# Altium footprint library memory-idt.PCBLIB: 54 footprints (part 3 of 4)
Each footprint in its own frame and in the unit in brackets; x right, y up, seen from the top. Pads: shape width x height; smd on the part's side, far side on the other; paste and mask are expansions set on the pad; w line width, h text height; cw(c..) or ccw(c..) is an arc to the next point about the centre after c.
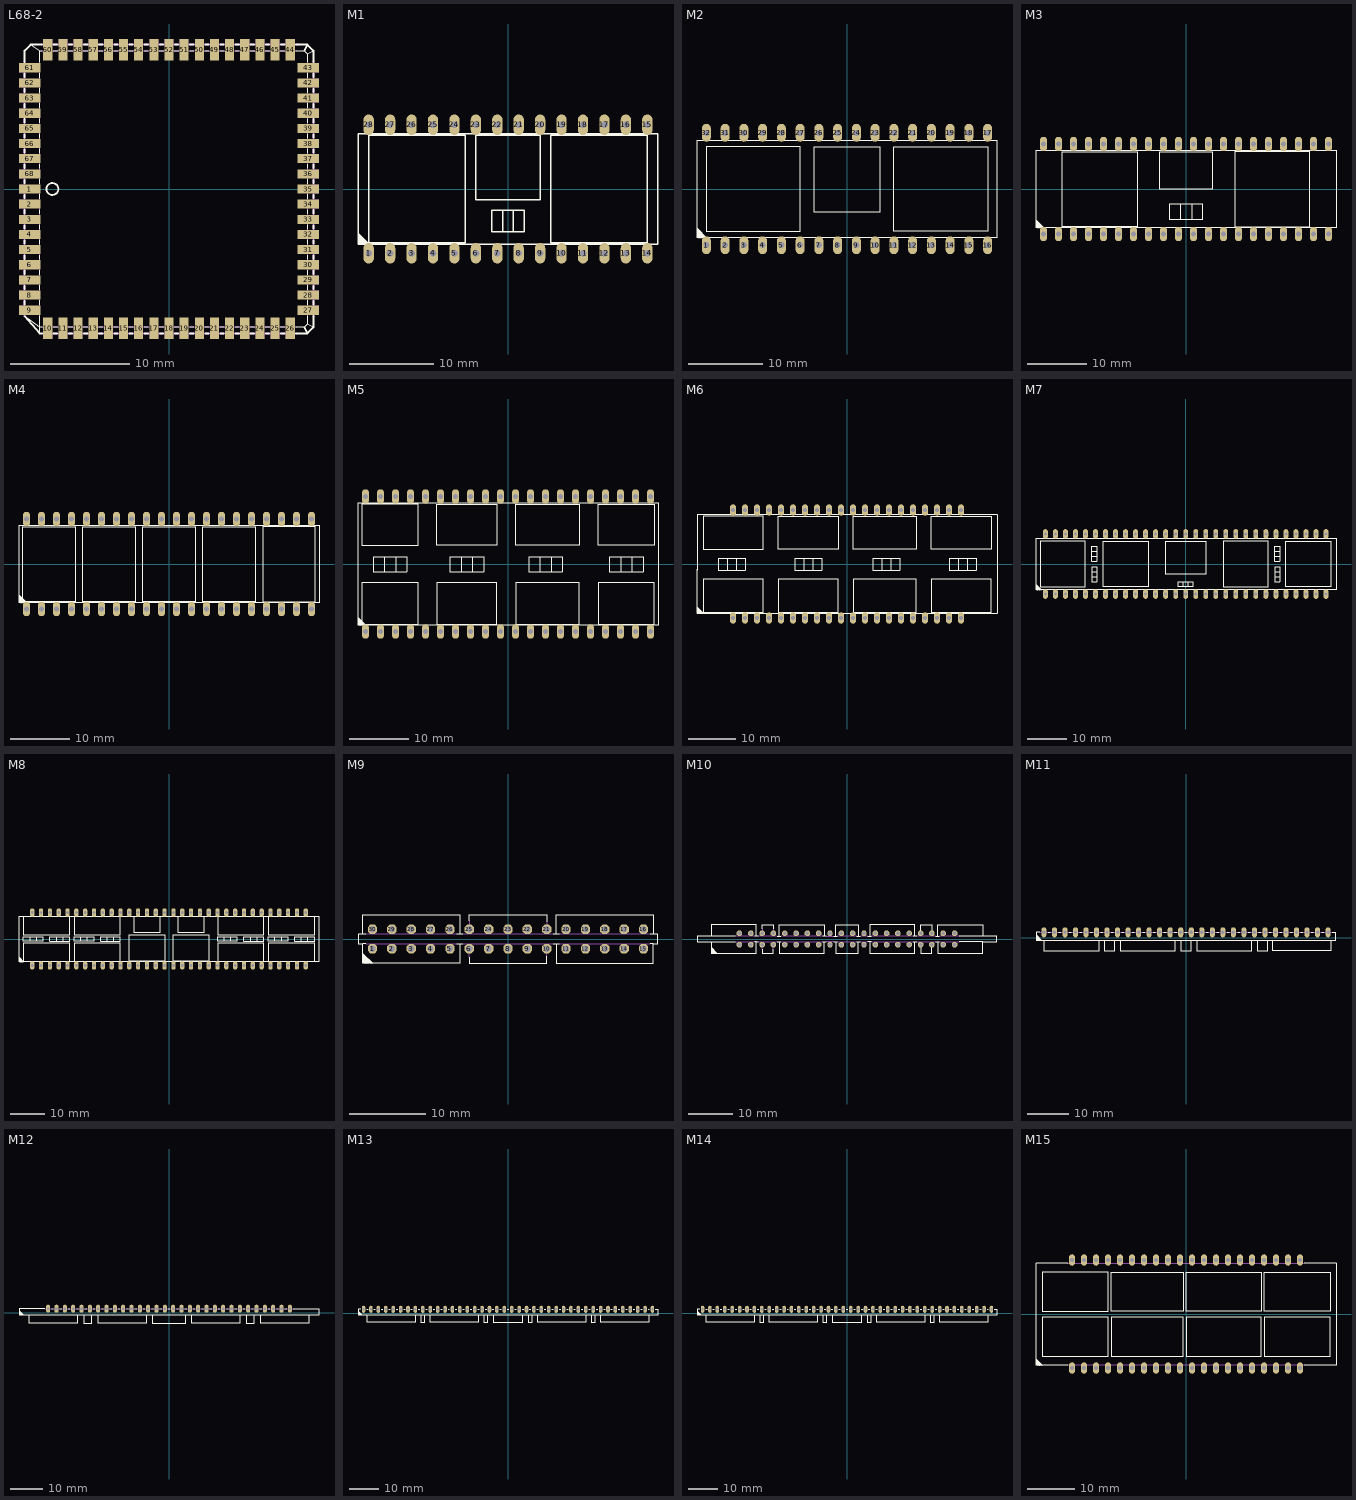
[diagram p2: the footprints below, top view; thin cyan lines are the x and y axes]

## L68-2 [mil]
pads (68):
  rect 70.87x29.92 smd: 1(-459.45,0) 2(-459.45,-50) 3(-459.45,-100) 4(-459.45,-150) 5(-459.45,-200) 6(-459.45,-250) 7(-459.45,-300) 8(-459.45,-350) 9(-459.45,-400) 27(459.45,-400) 28(459.45,-350) 29(459.45,-300) 30(459.45,-250) 31(459.45,-200) 32(459.45,-150) 33(459.45,-100) 34(459.45,-50) 35(459.45,0) 36(459.45,50) 37(459.45,100) 38(459.45,150) 39(459.45,200) 40(459.45,250) 41(459.45,300) 42(459.45,350) 43(459.45,400) 61(-459.45,400) 62(-459.45,350) 63(-459.45,300) 64(-459.45,250) 65(-459.45,200) 66(-459.45,150) 67(-459.45,100) 68(-459.45,50)
  rect 29.92x70.87 smd: 10(-400,-459.45) 11(-350,-459.45) 12(-300,-459.45) 13(-250,-459.45) 14(-200,-459.45) 15(-150,-459.45) 16(-100,-459.45) 17(-50,-459.45) 18(0,-459.45) 19(50,-459.45) 20(100,-459.45) 21(150,-459.45) 22(200,-459.45) 23(250,-459.45) 24(300,-459.45) 25(350,-459.45) 26(400,-459.45) 44(400,459.45) 45(350,459.45) 46(300,459.45) 47(250,459.45) 48(200,459.45) 49(150,459.45) 50(100,459.45) 51(50,459.45) 52(0,459.45) 53(-50,459.45) 54(-100,459.45) 55(-150,459.45) 56(-200,459.45) 57(-250,459.45) 58(-300,459.45) 59(-350,459.45) 60(-400,459.45)
Top Overlay:
  drawing of 157 lines, arcs and shapes, not listed
Mechanical 16:
  rectangle: -114.96,476.38 -85.04,494.88
  rectangle: -64.96,476.38 -35.04,494.88
  rectangle: -14.96,476.38 14.96,494.88
  rectangle: 35.04,476.38 64.96,494.88
  rectangle: 85.04,476.38 114.96,494.88
  rectangle: 135.04,476.38 164.96,494.88
  rectangle: 185.04,476.38 214.96,494.88
  rectangle: 476.38,135.04 494.88,164.96
  rectangle: 476.38,85.04 494.88,114.96
  rectangle: 476.38,35.04 494.88,64.96
  rectangle: 476.38,-14.96 494.88,14.96
  rectangle: 476.38,-64.96 494.88,-35.04
  rectangle: 476.38,-114.96 494.88,-85.04
  rectangle: 476.38,-414.96 494.88,-385.04
  rectangle: -214.96,-494.88 -185.04,-476.38
  rectangle: -164.96,-494.88 -135.04,-476.38
  rectangle: -114.96,-494.88 -85.04,-476.38
  rectangle: -64.96,-494.88 -35.04,-476.38
  rectangle: -14.96,-494.88 14.96,-476.38
  rectangle: 35.04,-494.88 64.96,-476.38
  rectangle: 85.04,-494.88 114.96,-476.38
  rectangle: -494.88,135.04 -476.38,164.96
  rectangle: -494.88,85.04 -476.38,114.96
  rectangle: -494.88,35.04 -476.38,64.96
  rectangle: -494.88,-14.96 -476.38,14.96
  rectangle: -494.88,-64.96 -476.38,-35.04
  rectangle: -494.88,-114.96 -476.38,-85.04
  rectangle: -494.88,-414.96 -476.38,-385.04
  rectangle: -164.96,476.38 -135.04,494.88
  rectangle: -214.96,476.38 -185.04,494.88
  rectangle: 135.04,-494.88 164.96,-476.38
  rectangle: 185.04,-494.88 214.96,-476.38
  rectangle: -494.88,185.04 -476.38,214.96
  rectangle: -494.88,235.04 -476.38,264.96
  rectangle: -494.88,-164.96 -476.38,-135.04
  rectangle: -494.88,-214.96 -476.38,-185.04
  rectangle: 235.04,-494.88 264.96,-476.38
  rectangle: 476.38,-214.96 494.88,-185.04
  rectangle: 476.38,-164.96 494.88,-135.04
  rectangle: 476.38,185.04 494.88,214.96
  rectangle: 476.38,235.04 494.88,264.96
  rectangle: 235.04,476.38 264.96,494.88
  rectangle: -264.96,476.38 -235.04,494.88
  rectangle: -264.96,-494.88 -235.04,-476.38
  rectangle: 476.38,-264.96 494.88,-235.04
  rectangle: 476.38,-314.96 494.88,-285.04
  rectangle: 476.38,-364.96 494.88,-335.04
  rectangle: 285.04,-494.88 314.96,-476.38
  rectangle: 335.04,-494.88 364.96,-476.38
  rectangle: 385.04,-494.88 414.96,-476.38
  rectangle: -314.96,-494.88 -285.04,-476.38
  rectangle: -364.96,-494.88 -335.04,-476.38
  rectangle: -414.96,-494.88 -385.04,-476.38
  rectangle: -494.88,-264.96 -476.38,-235.04
  rectangle: -494.88,-314.96 -476.38,-285.04
  rectangle: -494.88,-364.96 -476.38,-335.04
  rectangle: -314.96,476.38 -285.04,494.88
  rectangle: -364.96,476.38 -335.04,494.88
  rectangle: -414.96,476.38 -385.04,494.88
  rectangle: -494.88,285.04 -476.38,314.96
  rectangle: -494.88,335.04 -476.38,364.96
  rectangle: -494.88,385.04 -476.38,414.96
  rectangle: 285.04,476.38 314.96,494.88
  rectangle: 335.04,476.38 364.96,494.88
  rectangle: 385.04,476.38 414.96,494.88
  rectangle: 476.38,285.04 494.88,314.96
  rectangle: 476.38,335.04 494.88,364.96
  rectangle: 476.38,385.04 494.88,414.96
  lines w2: -427.17,-421.85 -427.17,419.09 ; -422.4,456.69 421.85,456.69 ; -420.43,-456.69 421.85,-456.69 ; 456.69,-421.85 456.69,421.85
  lines w6: -476.38,-419.96 -476.38,421.69 ; -421.69,476.38 426.69,476.38 ; -417.17,-476.38 421.69,-476.38 ; 476.38,-421.69 476.38,421.69

## M1 [mil]
pads (28):
  oval 48x96 hole 32: 1(-650,-300) 2(-550,-300) 3(-450,-300) 4(-350,-300) 5(-250,-300) 6(-150,-300) 7(-50,-300) 8(50,-300) 9(150,-300) 10(250,-300) 11(350,-300) 12(450,-300) 13(550,-300) 14(650,-300) 15(650,300) 16(550,300) 17(450,300) 18(350,300) 19(250,300) 20(150,300) 21(50,300) 22(-50,300) 23(-150,300) 24(-250,300) 25(-350,300) 26(-450,300) 27(-550,300) 28(-650,300)
Top Overlay:
  lines w6: -700,-252.52 -700,-258.74 -693.74,-258.74 ; -700,-252.52 -700,-246.26 ; -700,-252.52 -693.74,-258.74 ; -700,-246.26 -700,-240 ; -700,-246.26 -687.52,-258.74 ; -700,-240 -700,-233.74 ; -700,-240 -681.26,-258.74 ; -700,-233.74 -700,-227.52 ; -700,-233.74 -675,-258.74 ; -700,-227.52 -700,-221.26 ; -700,-227.52 -668.74,-258.74 ; -700,-221.26 -700,-215 ; -700,-221.26 -662.52,-258.74 ; -700,-215 -700,-208.74 ; -700,-215 -656.26,-258.74 ; -700,-208.74 -700,258.74 700,258.74 700,-258.74 -650,-258.74 ; -700,-208.74 -650,-258.74 ; -693.74,-258.74 -687.52,-258.74 ; -687.52,-258.74 -681.26,-258.74 ; -681.26,-258.74 -675,-258.74 ; -675,-258.74 -668.74,-258.74 ; -668.74,-258.74 -662.52,-258.74 ; -662.52,-258.74 -656.26,-258.74 ; -656.26,-258.74 -650,-258.74 ; -25,-200 -25,-100 ; -25,-200 -75,-200 -75,-100 -25,-100 ; -25,-200 25,-200 ; -25,-100 25,-100 ; 25,-200 25,-100 ; 25,-200 75,-200 75,-100 25,-100 ; -650,-250 -200,-250 -200,250 -650,250 -650,-250 ; -150,-50 150,-50 150,250 -150,250 -150,-50 ; 200,-250 650,-250 650,250 200,250 200,-250

## M2 [mil]
pads (32):
  oval 48x96 hole 32: 1(-750,-300) 2(-650,-300) 3(-550,-300) 4(-450,-300) 5(-350,-300) 6(-250,-300) 7(-150,-300) 8(-50,-300) 9(50,-300) 10(150,-300) 11(250,-300) 12(350,-300) 13(450,-300) 14(550,-300) 15(650,-300) 16(750,-300) 17(750,300) 18(650,300) 19(550,300) 20(450,300) 21(350,300) 22(250,300) 23(150,300) 24(50,300) 25(-50,300) 26(-150,300) 27(-250,300) 28(-350,300) 29(-450,300) 30(-550,300) 31(-650,300) 32(-750,300)
Top Overlay:
  lines w6: -800,-252.52 -800,-258.74 -793.74,-258.74 ; -800,-252.52 -800,-246.26 ; -800,-252.52 -793.74,-258.74 ; -800,-246.26 -800,-240 ; -800,-246.26 -787.52,-258.74 ; -800,-240 -800,-233.74 ; -800,-240 -781.26,-258.74 ; -800,-233.74 -800,-227.52 ; -800,-233.74 -775,-258.74 ; -800,-227.52 -800,-221.26 ; -800,-227.52 -768.74,-258.74 ; -800,-221.26 -800,-215 ; -800,-221.26 -762.52,-258.74 ; -800,-215 -800,-208.74 ; -800,-215 -756.26,-258.74 ; -800,-208.74 -800,258.74 800,258.74 800,-258.74 -750,-258.74 ; -800,-208.74 -750,-258.74 ; -793.74,-258.74 -787.52,-258.74 ; -787.52,-258.74 -781.26,-258.74 ; -781.26,-258.74 -775,-258.74 ; -775,-258.74 -768.74,-258.74 ; -768.74,-258.74 -762.52,-258.74 ; -762.52,-258.74 -756.26,-258.74 ; -756.26,-258.74 -750,-258.74 ; -750,-225 -750,225 -250,225 -250,-225 -750,-225 ; -175,-125 175,-125 175,225 -175,225 -175,-125 ; 250,-225 750,-225 750,225 250,225 250,-225

## M3 [mil]
pads (40):
  oval 48x96 hole 32: 1(-950,-300) 2(-850,-300) 3(-750,-300) 4(-650,-300) 5(-550,-300) 6(-450,-300) 7(-350,-300) 8(-250,-300) 9(-150,-300) 10(-50,-300) 11(50,-300) 12(150,-300) 13(250,-300) 14(350,-300) 15(450,-300) 16(550,-300) 17(650,-300) 18(750,-300) 19(850,-300) 20(950,-300) 21(950,300) 22(850,300) 23(750,300) 24(650,300) 25(550,300) 26(450,300) 27(350,300) 28(250,300) 29(150,300) 30(50,300) 31(-50,300) 32(-150,300) 33(-250,300) 34(-350,300) 35(-450,300) 36(-550,300) 37(-650,300) 38(-750,300) 39(-850,300) 40(-950,300)
Top Overlay:
  lines w6: -1000,-252.52 -1000,-258.74 -993.74,-258.74 ; -1000,-252.52 -1000,-246.26 ; -1000,-252.52 -993.74,-258.74 ; -1000,-246.26 -1000,-240 ; -1000,-246.26 -987.52,-258.74 ; -1000,-240 -1000,-233.74 ; -1000,-240 -981.26,-258.74 ; -1000,-233.74 -1000,-227.52 ; -1000,-233.74 -975,-258.74 ; -1000,-227.52 -1000,-221.26 ; -1000,-227.52 -968.74,-258.74 ; -1000,-221.26 -1000,-215 ; -1000,-221.26 -962.52,-258.74 ; -1000,-215 -1000,-208.74 ; -1000,-215 -956.26,-258.74 ; -1000,-208.74 -1000,258.74 1000,258.74 1000,-258.74 -950,-258.74 ; -1000,-208.74 -950,-258.74 ; -993.74,-258.74 -987.52,-258.74 ; -987.52,-258.74 -981.26,-258.74 ; -981.26,-258.74 -975,-258.74 ; -975,-258.74 -968.74,-258.74 ; -968.74,-258.74 -962.52,-258.74 ; -962.52,-258.74 -956.26,-258.74 ; -956.26,-258.74 -950,-258.74 ; -37.5,-200 -112.5,-200 -112.5,-100 -37.5,-100 ; -37.5,-200 37.5,-200 ; -37.5,-200 -37.5,-100 ; -37.5,-100 37.5,-100 ; 37.5,-200 112.5,-200 112.5,-100 37.5,-100 ; 37.5,-200 37.5,-100 ; -825,-250 -325,-250 -325,250 -825,250 -825,-250 ; -175,0 175,0 175,250 -175,250 -175,0 ; 325,-250 325,250 825,250 825,-250 325,-250

## M4 [mil]
pads (40):
  oval 48x96 hole 32: 1(-950,-300) 2(-850,-300) 3(-750,-300) 4(-650,-300) 5(-550,-300) 6(-450,-300) 7(-350,-300) 8(-250,-300) 9(-150,-300) 10(-50,-300) 11(50,-300) 12(150,-300) 13(250,-300) 14(350,-300) 15(450,-300) 16(550,-300) 17(650,-300) 18(750,-300) 19(850,-300) 20(950,-300) 21(950,300) 22(850,300) 23(750,300) 24(650,300) 25(550,300) 26(450,300) 27(350,300) 28(250,300) 29(150,300) 30(50,300) 31(-50,300) 32(-150,300) 33(-250,300) 34(-350,300) 35(-450,300) 36(-550,300) 37(-650,300) 38(-750,300) 39(-850,300) 40(-950,300)
Top Overlay:
  lines w6: -1000,-252.52 -1000,-258.74 -993.74,-258.74 ; -1000,-252.52 -1000,-246.26 ; -1000,-252.52 -993.74,-258.74 ; -1000,-246.26 -1000,-240 ; -1000,-246.26 -987.52,-258.74 ; -1000,-240 -1000,-233.74 ; -1000,-240 -981.26,-258.74 ; -1000,-233.74 -1000,-227.52 ; -1000,-233.74 -975,-258.74 ; -1000,-227.52 -1000,-221.26 ; -1000,-227.52 -968.74,-258.74 ; -1000,-221.26 -1000,-215 ; -1000,-221.26 -962.52,-258.74 ; -1000,-215 -1000,-208.74 ; -1000,-215 -956.26,-258.74 ; -1000,-208.74 -1000,258.74 1000,258.74 1000,-258.74 -950,-258.74 ; -1000,-208.74 -950,-258.74 ; -993.74,-258.74 -987.52,-258.74 ; -987.52,-258.74 -981.26,-258.74 ; -981.26,-258.74 -975,-258.74 ; -975,-258.74 -968.74,-258.74 ; -968.74,-258.74 -962.52,-258.74 ; -962.52,-258.74 -956.26,-258.74 ; -956.26,-258.74 -950,-258.74 ; -975,-250 -625,-250 -625,250 -975,250 -975,-250 ; -575,-250 -225,-250 -225,250 -575,250 -575,-250 ; -175,-250 175,-250 175,250 -175,250 -175,-250 ; 225,-250 575,-250 575,250 225,250 225,-250 ; 625,-250 625,250 975,250 975,-250 625,-250

## M5 [mil]
pads (40):
  oval 48x96 hole 32: 1(-950,-450) 2(-850,-450) 3(-750,-450) 4(-650,-450) 5(-550,-450) 6(-450,-450) 7(-350,-450) 8(-250,-450) 9(-150,-450) 10(-50,-450) 11(50,-450) 12(150,-450) 13(250,-450) 14(350,-450) 15(450,-450) 16(550,-450) 17(650,-450) 18(750,-450) 19(850,-450) 20(950,-450) 21(950,450) 22(850,450) 23(750,450) 24(650,450) 25(550,450) 26(450,450) 27(350,450) 28(250,450) 29(150,450) 30(50,450) 31(-50,450) 32(-150,450) 33(-250,450) 34(-350,450) 35(-450,450) 36(-550,450) 37(-650,450) 38(-750,450) 39(-850,450) 40(-950,450)
Top Overlay:
  lines w6: -1000,-402.52 -1000,-408.74 -993.74,-408.74 ; -1000,-402.52 -1000,-396.26 ; -1000,-402.52 -993.74,-408.74 ; -1000,-396.26 -1000,-390 ; -1000,-396.26 -987.52,-408.74 ; -1000,-390 -1000,-383.74 ; -1000,-390 -981.26,-408.74 ; -1000,-383.74 -1000,-377.52 ; -1000,-383.74 -975,-408.74 ; -1000,-377.52 -1000,-371.26 ; -1000,-377.52 -968.74,-408.74 ; -1000,-371.26 -1000,-365 ; -1000,-371.26 -962.52,-408.74 ; -1000,-365 -1000,-358.74 ; -1000,-365 -956.26,-408.74 ; -1000,-358.74 -1000,408.74 1000,408.74 1000,-408.74 -950,-408.74 ; -1000,-358.74 -950,-408.74 ; -993.74,-408.74 -987.52,-408.74 ; -987.52,-408.74 -981.26,-408.74 ; -981.26,-408.74 -975,-408.74 ; -975,-408.74 -968.74,-408.74 ; -968.74,-408.74 -962.52,-408.74 ; -962.52,-408.74 -956.26,-408.74 ; -956.26,-408.74 -950,-408.74 ; -825,-50 -825,50 ; -825,-50 -900,-50 -900,50 -825,50 ; -825,-50 -750,-50 ; -825,50 -750,50 ; -750,-50 -750,50 ; -750,-50 -675,-50 -675,50 -750,50 ; -312.5,-50 -312.5,50 ; -312.5,-50 -387.5,-50 -387.5,50 -312.5,50 ; -312.5,-50 -237.5,-50 ; -312.5,50 -237.5,50 ; -237.5,-50 -237.5,50 ; -237.5,-50 -162.5,-50 -162.5,50 -237.5,50 ; 212.5,-50 212.5,50 ; 212.5,-50 137.5,-50 137.5,50 212.5,50 ; 212.5,-50 287.5,-50 ; 212.5,50 287.5,50 ; 287.5,-50 287.5,50 ; 287.5,-50 362.5,-50 362.5,50 287.5,50 ; 750,-50 750,50 ; 750,-50 675,-50 675,50 750,50 ; 750,-50 825,-50 ; 750,50 825,50 ; 825,-50 825,50 ; 825,-50 900,-50 900,50 825,50 ; -975,-400 -975,-125 -600,-125 -600,-400 -975,-400 ; -975,125 -975,400 -600,400 -600,125 -975,125 ; -475,-400 -475,-125 -75,-125 -75,-400 -475,-400 ; -475,125 -75,125 -75,400 -475,400 -475,125 ; 50,-400 50,-125 475,-125 475,-400 50,-400 ; 50,125 475,125 475,400 50,400 50,125 ; 600,-400 600,-125 975,-125 975,-400 600,-400 ; 600,125 975,125 975,400 600,400 600,125

## M6 [mil]
pads (40):
  oval 48x96 hole 32: 1(-950,-450) 2(-850,-450) 3(-750,-450) 4(-650,-450) 5(-550,-450) 6(-450,-450) 7(-350,-450) 8(-250,-450) 9(-150,-450) 10(-50,-450) 11(50,-450) 12(150,-450) 13(250,-450) 14(350,-450) 15(450,-450) 16(550,-450) 17(650,-450) 18(750,-450) 19(850,-450) 20(950,-450) 21(950,450) 22(850,450) 23(750,450) 24(650,450) 25(550,450) 26(450,450) 27(350,450) 28(250,450) 29(150,450) 30(50,450) 31(-50,450) 32(-150,450) 33(-250,450) 34(-350,450) 35(-450,450) 36(-550,450) 37(-650,450) 38(-750,450) 39(-850,450) 40(-950,450)
Top Overlay:
  lines w6: -1250,-50 -1250,-45 ; -1250,35 -1250,50 ; -1250,-408.74 -1250,-410 1250,-410 1250,410 -1250,410 -1250,50 ; -1250,-408.74 -1243.74,-408.74 ; -1250,-408.74 -1250,-402.52 ; -1250,-402.52 -1250,-396.26 ; -1250,-402.52 -1243.74,-408.74 ; -1250,-396.26 -1250,-390 ; -1250,-396.26 -1237.52,-408.74 ; -1250,-390 -1250,-383.74 ; -1250,-390 -1231.26,-408.74 ; -1250,-383.74 -1250,-377.52 ; -1250,-383.74 -1225,-408.74 ; -1250,-377.52 -1250,-371.26 ; -1250,-377.52 -1218.74,-408.74 ; -1250,-371.26 -1250,-365 ; -1250,-371.26 -1212.52,-408.74 ; -1250,-365 -1250,-358.74 ; -1250,-365 -1206.26,-408.74 ; -1250,-358.74 -1250,-45 ; -1250,-358.74 -1200,-408.74 -1206.26,-408.74 ; -1250,-45 -1250,50 ; -1243.74,-408.74 -1237.52,-408.74 ; -1237.52,-408.74 -1231.26,-408.74 ; -1231.26,-408.74 -1225,-408.74 ; -1225,-408.74 -1218.74,-408.74 ; -1218.74,-408.74 -1212.52,-408.74 ; -1212.52,-408.74 -1206.26,-408.74 ; -1000,-50 -1000,50 ; -1000,-50 -1075,-50 -1075,50 -1000,50 ; -1000,-50 -925,-50 ; -1000,50 -925,50 ; -925,-50 -925,50 ; -925,-50 -850,-50 -850,50 -925,50 ; -362.5,-50 -362.5,50 ; -362.5,-50 -437.5,-50 -437.5,50 -362.5,50 ; -362.5,-50 -287.5,-50 ; -362.5,50 -287.5,50 ; -287.5,-50 -287.5,50 ; -287.5,-50 -212.5,-50 -212.5,50 -287.5,50 ; 287.5,-50 287.5,50 ; 287.5,-50 212.5,-50 212.5,50 287.5,50 ; 287.5,-50 362.5,-50 ; 287.5,50 362.5,50 ; 362.5,-50 362.5,50 ; 362.5,-50 437.5,-50 437.5,50 362.5,50 ; 925,-50 925,50 ; 925,-50 850,-50 850,50 925,50 ; 925,-50 1000,-50 ; 925,50 1000,50 ; 1000,-50 1000,50 ; 1000,-50 1075,-50 1075,50 1000,50 ; -1200,-400 -1200,-125 -700,-125 -700,-400 -1200,-400 ; -1200,125 -1200,400 -700,400 -700,125 -1200,125 ; -575,-400 -575,-125 -75,-125 -75,-400 -575,-400 ; -575,125 -75,125 -75,400 -575,400 -575,125 ; 50,-400 50,-125 575,-125 575,-400 50,-400 ; 50,125 575,125 575,400 50,400 50,125 ; 700,-400 700,-125 1200,-125 1200,-400 700,-400 ; 700,125 1200,125 1200,400 700,400 700,125

## M7 [mil]
pads (58):
  oval 48x96 hole 32: 1(-1400,-300) 2(-1300,-300) 3(-1200,-300) 4(-1100,-300) 5(-1000,-300) 6(-900,-300) 7(-800,-300) 8(-700,-300) 9(-600,-300) 10(-500,-300) 11(-400,-300) 12(-300,-300) 13(-200,-300) 14(-100,-300) 15(0,-300) 16(100,-300) 17(200,-300) 18(300,-300) 19(400,-300) 20(500,-300) 21(600,-300) 22(700,-300) 23(800,-300) 24(900,-300) 25(1000,-300) 26(1100,-300) 27(1200,-300) 28(1300,-300) 29(1400,-300) 30(1400,300) 31(1300,300) 32(1200,300) 33(1100,300) 34(1000,300) 35(900,300) 36(800,300) 37(700,300) 38(600,300) 39(500,300) 40(400,300) 41(300,300) 42(200,300) 43(100,300) 44(0,300) 45(-100,300) 46(-200,300) 47(-300,300) 48(-400,300) 49(-500,300) 50(-600,300) 51(-700,300) 52(-800,300) 53(-900,300) 54(-1000,300) 55(-1100,300) 56(-1200,300) 57(-1300,300) 58(-1400,300)
Top Overlay:
  lines w6: -1493.74,-252.52 -1493.74,-258.74 -1487.52,-258.74 ; -1493.74,-252.52 -1493.74,-246.26 ; -1493.74,-252.52 -1487.52,-258.74 ; -1493.74,-246.26 -1493.74,-240 ; -1493.74,-246.26 -1481.26,-258.74 ; -1493.74,-240 -1493.74,-233.74 ; -1493.74,-240 -1475,-258.74 ; -1493.74,-233.74 -1493.74,-227.52 ; -1493.74,-233.74 -1468.74,-258.74 ; -1493.74,-227.52 -1493.74,-221.26 ; -1493.74,-227.52 -1462.52,-258.74 ; -1493.74,-221.26 -1493.74,-215 ; -1493.74,-221.26 -1456.26,-258.74 ; -1493.74,-215 -1493.74,-208.74 ; -1493.74,-215 -1450,-258.74 ; -1493.74,-208.74 -1493.74,258.74 1500,258.74 1500,-258.74 -1443.74,-258.74 ; -1493.74,-208.74 -1443.74,-258.74 ; -1487.52,-258.74 -1481.26,-258.74 ; -1481.26,-258.74 -1475,-258.74 ; -1475,-258.74 -1468.74,-258.74 ; -1468.74,-258.74 -1462.52,-258.74 ; -1462.52,-258.74 -1456.26,-258.74 ; -1456.26,-258.74 -1450,-258.74 ; -1450,-258.74 -1443.74,-258.74 ; -937.5,-125 -887.5,-125 ; -937.5,-125 -937.5,-75 ; -937.5,-125 -937.5,-175 -887.5,-175 -887.5,-125 ; -937.5,-75 -887.5,-75 ; -937.5,-75 -937.5,-25 -887.5,-25 -887.5,-75 ; -937.5,75 -887.5,75 ; -937.5,75 -937.5,25 -887.5,25 -887.5,75 ; -937.5,75 -937.5,125 ; -937.5,125 -887.5,125 ; -937.5,125 -937.5,175 -887.5,175 -887.5,125 ; -887.5,-125 -887.5,-75 ; -887.5,75 -887.5,125 ; -25,-225 -25,-175 ; -25,-225 25,-225 ; -25,-225 -75,-225 -75,-175 -25,-175 ; -25,-175 25,-175 ; 25,-225 25,-175 ; 25,-225 75,-225 75,-175 25,-175 ; 887.5,-125 937.5,-125 ; 887.5,-125 887.5,-75 ; 887.5,-125 887.5,-175 937.5,-175 937.5,-125 ; 887.5,-75 937.5,-75 ; 887.5,-75 887.5,-25 937.5,-25 937.5,-75 ; 887.5,75 937.5,75 ; 887.5,75 887.5,25 937.5,25 937.5,75 ; 887.5,75 887.5,125 ; 887.5,125 937.5,125 ; 887.5,125 887.5,175 937.5,175 937.5,125 ; 937.5,-125 937.5,-75 ; 937.5,75 937.5,125 ; -1450,-225 -1000,-225 -1000,225 -1450,225 -1450,-225 ; -825,-225 -375,-225 -375,225 -825,225 -825,-225 ; -200,-100 200,-100 200,225 -200,225 -200,-100 ; 375,-225 825,-225 825,225 375,225 375,-225 ; 1000,-225 1450,-225 1450,225 1000,225 1000,-225

## M8 [mil]
pads (64):
  oval 48x96 hole 32: 1(-1550,-300) 2(-1450,-300) 3(-1350,-300) 4(-1250,-300) 5(-1150,-300) 6(-1050,-300) 7(-950,-300) 8(-850,-300) 9(-750,-300) 10(-650,-300) 11(-550,-300) 12(-450,-300) 13(-350,-300) 14(-250,-300) 15(-150,-300) 16(-50,-300) 17(50,-300) 18(150,-300) 19(250,-300) 20(350,-300) 21(450,-300) 22(550,-300) 23(650,-300) 24(750,-300) 25(850,-300) 26(950,-300) 27(1050,-300) 28(1150,-300) 29(1250,-300) 30(1350,-300) 31(1450,-300) 32(1550,-300) 33(1550,300) 34(1450,300) 35(1350,300) 36(1250,300) 37(1150,300) 38(1050,300) 39(950,300) 40(850,300) 41(750,300) 42(650,300) 43(550,300) 44(450,300) 45(350,300) 46(250,300) 47(150,300) 48(50,300) 49(-50,300) 50(-150,300) 51(-250,300) 52(-350,300) 53(-450,300) 54(-550,300) 55(-650,300) 56(-750,300) 57(-850,300) 58(-950,300) 59(-1050,300) 60(-1150,300) 61(-1250,300) 62(-1350,300) 63(-1450,300) 64(-1550,300)
Top Overlay:
  drawing of 156 lines, arcs and shapes, not listed

## M9 [mil]
pads (30):
  oct 48x48 hole 32: 1(-700,-50) 2(-600,-50) 3(-500,-50) 4(-400,-50) 5(-300,-50) 6(-200,-50) 7(-100,-50) 8(0,-50) 9(100,-50) 10(200,-50) 11(300,-50) 12(400,-50) 13(500,-50) 14(600,-50) 15(700,-50) 16(700,50) 17(600,50) 18(500,50) 19(400,50) 20(300,50) 21(200,50) 22(100,50) 23(0,50) 24(-100,50) 25(-200,50) 26(-300,50) 27(-400,50) 28(-500,50) 29(-600,50) 30(-700,50)
Top Overlay:
  lines w6: -735,-25 -750,-25 ; -735,25 -750,25 ; -265,-25 -250,-25 ; -265,25 -250,25 ; -235,-25 -250,-25 ; -235,25 -250,25 ; -200,-95 -200,-125 200,-125 200,-90 ; -200,95 -200,125 200,125 200,90 ; 235,-25 250,-25 ; 235,25 250,25 ; 265,-25 250,-25 ; 265,25 250,25 ; 735,-25 750,-25 ; 735,25 750,25 ; -750,-118.74 -750,-125 -743.74,-125 ; -750,-118.74 -750,-112.5 ; -750,-118.74 -743.74,-125 ; -750,-112.5 -750,-106.26 ; -750,-112.5 -737.5,-125 ; -750,-106.26 -750,-100 ; -750,-106.26 -731.26,-125 ; -750,-100 -750,-93.74 ; -750,-100 -725,-125 ; -750,-93.74 -750,-87.5 ; -750,-93.74 -718.74,-125 ; -750,-87.5 -750,-81.26 ; -750,-87.5 -712.5,-125 ; -750,-81.26 -750,-75 ; -750,-81.26 -706.26,-125 ; -750,-75 -750,-25 ; -750,-75 -700,-125 ; -750,-25 -775,-25 -775,25 -750,25 ; -750,25 -750,125 -250,125 -250,25 ; -743.74,-125 -737.5,-125 ; -737.5,-125 -731.26,-125 ; -731.26,-125 -725,-125 ; -725,-125 -718.74,-125 ; -718.74,-125 -712.5,-125 ; -712.5,-125 -706.26,-125 ; -706.26,-125 -700,-125 ; -700,-125 -250,-125 -250,-25 ; 250,-25 250,-125 750,-125 750,-25 ; 250,25 250,125 750,125 750,25 ; 750,-25 775,-25 775,25 750,25
Mechanical 16:
  lines w6: -735,-25 -265,-25 ; -735,25 -265,25 ; -235,-25 -200,-25 ; -235,25 -200,25 ; -200,-95 -200,-25 ; -200,95 -200,25 ; 200,-90 200,-25 ; 200,90 200,25 ; 235,-25 200,-25 ; 235,25 200,25 ; 265,-25 735,-25 ; 265,25 735,25 ; -200,-25 200,-25 ; -200,25 200,25

## M10 [mil]
pads (40):
  oct 48x48 hole 32: 1(-950,-50) 2(-850,-50) 3(-750,-50) 4(-650,-50) 5(-550,-50) 6(-450,-50) 7(-350,-50) 8(-250,-50) 9(-150,-50) 10(-50,-50) 11(50,-50) 12(150,-50) 13(250,-50) 14(350,-50) 15(450,-50) 16(550,-50) 17(650,-50) 18(750,-50) 19(850,-50) 20(950,-50) 21(950,50) 22(850,50) 23(750,50) 24(650,50) 25(550,50) 26(450,50) 27(350,50) 28(250,50) 29(150,50) 30(50,50) 31(-50,50) 32(-150,50) 33(-250,50) 34(-350,50) 35(-450,50) 36(-550,50) 37(-650,50) 38(-750,50) 39(-850,50) 40(-950,50)
Top Overlay:
  lines w6: -985,-25 -1200,-25 ; -985,25 -1200,25 ; -815,-25 -800,-25 ; -815,25 -800,25 ; -785,-25 -800,-25 ; -785,25 -800,25 ; -750,-90 -750,-125 -650,-125 -650,-90 ; -750,90 -750,125 -650,125 -650,90 ; -615,-25 -600,-25 ; -615,25 -600,25 ; -585,-25 -600,-25 ; -585,25 -600,25 ; -215,-25 -200,-25 ; -215,25 -200,25 ; -185,-25 -200,-25 ; -185,25 -200,25 ; -115,-25 -100,-25 ; -115,25 -100,25 ; -85,-25 -100,-25 ; -85,25 -100,25 ; 85,-25 115,-25 ; 85,25 115,25 ; 100,-25 100,-125 -100,-125 -100,-25 ; 100,25 100,125 -100,125 -100,25 ; 185,-25 215,-25 ; 185,25 215,25 ; 200,-25 200,-125 600,-125 600,-25 ; 200,25 200,125 600,125 600,25 ; 585,-25 615,-25 ; 585,25 615,25 ; 650,-75 650,-125 750,-125 750,-75 ; 650,75 650,125 750,125 750,75 ; 785,-25 815,-25 ; 785,25 815,25 ; 800,-25 800,-125 1200,-125 1200,-25 ; 800,25 800,125 1200,125 1200,25 ; 990,-25 1200,-25 ; 990,25 1200,25 ; -1200,-124.99 -1193.74,-125 ; -1200,-124.99 -1200,-118.75 ; -1200,-124.99 -1200,-118.75 ; -1200,-124.99 -800,-125 -800,-25 ; -1200,-118.75 -1200,-112.5 ; -1200,-118.75 -1193.74,-125 ; -1200,-118.75 -1200,-106.25 ; -1200,-112.5 -1200,-106.25 ; -1200,-112.5 -1187.5,-125 ; -1200,-106.25 -1200,-100 ; -1200,-106.25 -1181.26,-125 ; -1200,-106.25 -1200,-93.75 ; -1200,-100 -1200,-93.75 ; -1200,-100 -1175,-125 ; -1200,-93.75 -1200,-87.5 ; -1200,-93.75 -1168.74,-125 ; -1200,-93.75 -1200,-81.25 ; -1200,-87.5 -1200,-81.25 ; -1200,-87.5 -1162.5,-125 ; -1200,-81.25 -1200,-75 -1150,-125 -1156.26,-125 ; -1200,-81.25 -1156.26,-125 ; -1200,-81.25 -1200,-25 ; -1200,-25 -1325,-25 -1325,25 -1200,25 ; -1200,25 -1200,125 -800,125 -800,25 ; -1193.74,-125 -1187.5,-125 ; -1187.5,-125 -1181.26,-125 ; -1181.26,-125 -1175,-125 ; -1175,-125 -1168.74,-125 ; -1168.74,-125 -1162.5,-125 ; -1162.5,-125 -1156.26,-125 ; -600,-25 -600,-125 -200,-125 -200,-25 ; -600,25 -600,125 -200,125 -200,25 ; 1200,-25 1325,-25 1325,25 1200,25
Mechanical 16:
  lines w6: -985,-25 -815,-25 ; -985,25 -815,25 ; -785,-25 -750,-25 ; -785,25 -750,25 ; -750,-90 -750,-25 ; -750,90 -750,25 ; -650,-90 -650,-25 ; -650,90 -650,25 ; -615,-25 -650,-25 ; -615,25 -650,25 ; -585,-25 -215,-25 ; -585,25 -215,25 ; -185,-25 -115,-25 ; -185,25 -115,25 ; -85,-25 85,-25 ; -85,25 85,25 ; 115,-25 185,-25 ; 115,25 185,25 ; 215,-25 585,-25 ; 215,25 585,25 ; 615,-25 785,-25 ; 615,25 785,25 ; 815,-25 990,-25 ; 815,25 990,25 ; -750,-25 -650,-25 ; -750,25 -650,25

## M11 [mil]
pads (28):
  oval 48x96 hole 32: 1(-1350,50) 2(-1250,50) 3(-1150,50) 4(-1050,50) 5(-950,50) 6(-850,50) 7(-750,50) 8(-650,50) 9(-550,50) 10(-450,50) 11(-350,50) 12(-250,50) 13(-150,50) 14(-50,50) 15(50,50) 16(150,50) 17(250,50) 18(350,50) 19(450,50) 20(550,50) 21(650,50) 22(750,50) 23(850,50) 24(950,50) 25(1050,50) 26(1150,50) 27(1250,50) 28(1350,50)
Top Overlay:
  lines w6: -1390,50 -1425,50 -1425,25 ; -1310,50 -1290,50 ; -1210,50 -1190,50 ; -1110,50 -1090,50 ; -1010,50 -990,50 ; -910,50 -890,50 ; -810,50 -790,50 ; -710,50 -690,50 ; -610,50 -590,50 ; -510,50 -490,50 ; -410,50 -390,50 ; -310,50 -290,50 ; -210,50 -190,50 ; -110,50 -90,50 ; -10,50 10,50 ; 90,50 110,50 ; 190,50 210,50 ; 290,50 310,50 ; 390,50 410,50 ; 490,50 510,50 ; 590,50 610,50 ; 690,50 710,50 ; 790,50 810,50 ; 890,50 910,50 ; 990,50 1010,50 ; 1090,50 1110,50 ; 1190,50 1210,50 ; 1290,50 1310,50 ; 1390,50 1425,50 1425,-25 1375,-25 ; -1425,-18.74 -1425,-12.52 ; -1425,-18.74 -1425,-25 -1418.74,-25 ; -1425,-18.74 -1418.74,-25 ; -1425,-12.52 -1425,-6.26 ; -1425,-12.52 -1412.52,-25 ; -1425,-6.26 -1425,0 ; -1425,-6.26 -1406.26,-25 ; -1425,0 -1425,6.26 ; -1425,0 -1400,-25 ; -1425,6.26 -1425,12.52 ; -1425,6.26 -1393.74,-25 ; -1425,12.52 -1425,18.74 ; -1425,12.52 -1387.52,-25 ; -1425,18.74 -1425,25 ; -1425,18.74 -1381.26,-25 ; -1425,25 -1375,-25 ; -1418.74,-25 -1412.52,-25 ; -1412.52,-25 -1406.26,-25 ; -1406.26,-25 -1400,-25 ; -1400,-25 -1393.74,-25 ; -1393.74,-25 -1387.52,-25 ; -1387.52,-25 -1381.26,-25 ; -1381.26,-25 -1375,-25 ; -1375,-25 -1350,-25 ; -1350,-25 -825,-25 ; -1350,-25 -1350,-125 -825,-125 -825,-25 ; -825,-25 -775,-25 ; -775,-25 -675,-25 ; -775,-25 -775,-125 -675,-125 -675,-25 ; -675,-25 -625,-25 ; -625,-25 -100,-25 ; -625,-25 -625,-125 -100,-125 -100,-25 ; -100,-25 -50,-25 ; -50,-25 50,-25 ; -50,-25 -50,-125 50,-125 50,-25 ; 50,-25 100,-25 ; 100,-25 625,-25 ; 100,-25 100,-125 625,-125 625,-25 ; 625,-25 675,-25 ; 675,-25 775,-25 ; 675,-25 675,-125 775,-125 775,-25 ; 775,-25 825,-25 ; 825,-25 1375,-25 ; 825,-25 825,-125 1375,-125 1375,-25
Mechanical 16:
  lines w6: -1390,50 -1310,50 ; -1290,50 -1210,50 ; -1190,50 -1110,50 ; -1090,50 -1010,50 ; -990,50 -910,50 ; -890,50 -810,50 ; -790,50 -710,50 ; -690,50 -610,50 ; -590,50 -510,50 ; -490,50 -410,50 ; -390,50 -310,50 ; -290,50 -210,50 ; -190,50 -110,50 ; -90,50 -10,50 ; 10,50 90,50 ; 110,50 190,50 ; 210,50 290,50 ; 310,50 390,50 ; 410,50 490,50 ; 510,50 590,50 ; 610,50 690,50 ; 710,50 790,50 ; 810,50 890,50 ; 910,50 990,50 ; 1010,50 1090,50 ; 1110,50 1190,50 ; 1210,50 1290,50 ; 1310,50 1390,50

## M12 [mil]
pads (30):
  oval 48x96 hole 32: 1(-1450,50) 2(-1350,50) 3(-1250,50) 4(-1150,50) 5(-1050,50) 6(-950,50) 7(-850,50) 8(-750,50) 9(-650,50) 10(-550,50) 11(-450,50) 12(-350,50) 13(-250,50) 14(-150,50) 15(-50,50) 16(50,50) 17(150,50) 18(250,50) 19(350,50) 20(450,50) 21(550,50) 22(650,50) 23(750,50) 24(850,50) 25(950,50) 26(1050,50) 27(1150,50) 28(1250,50) 29(1350,50) 30(1450,50)
Top Overlay:
  lines w6: -1490,50 -1800,50 -1800,25 ; -1410,50 -1390,50 ; -1310,50 -1290,50 ; -1210,50 -1190,50 ; -1110,50 -1090,50 ; -1010,50 -990,50 ; -910,50 -890,50 ; -810,50 -790,50 ; -710,50 -690,50 ; -610,50 -590,50 ; -510,50 -490,50 ; -410,50 -390,50 ; -310,50 -290,50 ; -210,50 -190,50 ; -110,50 -90,50 ; -10,50 10,50 ; 90,50 110,50 ; 190,50 210,50 ; 290,50 310,50 ; 390,50 410,50 ; 490,50 510,50 ; 590,50 610,50 ; 690,50 710,50 ; 790,50 810,50 ; 890,50 910,50 ; 990,50 1010,50 ; 1090,50 1110,50 ; 1190,50 1210,50 ; 1290,50 1310,50 ; 1390,50 1410,50 ; 1490,50 1800,50 1800,-25 1675,-25 ; -1800,-18.74 -1800,-12.52 ; -1800,-18.74 -1800,-25 -1793.74,-25 ; -1800,-18.74 -1793.74,-25 ; -1800,-12.52 -1800,-6.26 ; -1800,-12.52 -1787.52,-25 ; -1800,-6.26 -1800,0 ; -1800,-6.26 -1781.26,-25 ; -1800,0 -1800,6.26 ; -1800,0 -1775,-25 ; -1800,6.26 -1800,12.52 ; -1800,6.26 -1768.74,-25 ; -1800,12.52 -1800,18.74 ; -1800,12.52 -1762.52,-25 ; -1800,18.74 -1800,25 ; -1800,18.74 -1756.26,-25 ; -1800,25 -1750,-25 ; -1793.74,-25 -1787.52,-25 ; -1787.52,-25 -1781.26,-25 ; -1781.26,-25 -1775,-25 ; -1775,-25 -1768.74,-25 ; -1768.74,-25 -1762.52,-25 ; -1762.52,-25 -1756.26,-25 ; -1756.26,-25 -1750,-25 ; -1750,-25 -1675,-25 ; -1675,-25 -1100,-25 ; -1675,-25 -1675,-125 -1100,-125 -1100,-25 ; -1100,-25 -1025,-25 ; -1025,-25 -925,-25 ; -1025,-25 -1025,-125 -925,-125 -925,-25 ; -925,-25 -850,-25 ; -850,-25 -275,-25 ; -850,-25 -850,-125 -275,-125 -275,-25 ; -275,-25 -200,-25 ; -200,-25 200,-25 ; -200,-25 -200,-125 200,-125 200,-25 ; 200,-25 275,-25 ; 275,-25 850,-25 ; 275,-25 275,-125 850,-125 850,-25 ; 850,-25 925,-25 ; 925,-25 1025,-25 ; 925,-25 925,-125 1025,-125 1025,-25 ; 1025,-25 1100,-25 ; 1100,-25 1675,-25 ; 1100,-25 1100,-125 1675,-125 1675,-25
Mechanical 16:
  lines w6: -1490,50 -1410,50 ; -1390,50 -1310,50 ; -1290,50 -1210,50 ; -1190,50 -1110,50 ; -1090,50 -1010,50 ; -990,50 -910,50 ; -890,50 -810,50 ; -790,50 -710,50 ; -690,50 -610,50 ; -590,50 -510,50 ; -490,50 -410,50 ; -390,50 -310,50 ; -290,50 -210,50 ; -190,50 -110,50 ; -90,50 -10,50 ; 10,50 90,50 ; 110,50 190,50 ; 210,50 290,50 ; 310,50 390,50 ; 410,50 490,50 ; 510,50 590,50 ; 610,50 690,50 ; 710,50 790,50 ; 810,50 890,50 ; 910,50 990,50 ; 1010,50 1090,50 ; 1110,50 1190,50 ; 1210,50 1290,50 ; 1310,50 1390,50 ; 1410,50 1490,50

## M13 [mil]
pads (40):
  oval 48x96 hole 32: 1(-1950,50) 2(-1850,50) 3(-1750,50) 4(-1650,50) 5(-1550,50) 6(-1450,50) 7(-1350,50) 8(-1250,50) 9(-1150,50) 10(-1050,50) 11(-950,50) 12(-850,50) 13(-750,50) 14(-650,50) 15(-550,50) 16(-450,50) 17(-350,50) 18(-250,50) 19(-150,50) 20(-50,50) 21(50,50) 22(150,50) 23(250,50) 24(350,50) 25(450,50) 26(550,50) 27(650,50) 28(750,50) 29(850,50) 30(950,50) 31(1050,50) 32(1150,50) 33(1250,50) 34(1350,50) 35(1450,50) 36(1550,50) 37(1650,50) 38(1750,50) 39(1850,50) 40(1950,50)
Top Overlay:
  lines w6: -1990,50 -2025,50 -2025,25 ; -1910,50 -1890,50 ; -1810,50 -1790,50 ; -1710,50 -1690,50 ; -1610,50 -1590,50 ; -1510,50 -1490,50 ; -1410,50 -1390,50 ; -1310,50 -1290,50 ; -1210,50 -1190,50 ; -1110,50 -1090,50 ; -1010,50 -990,50 ; -910,50 -890,50 ; -810,50 -790,50 ; -710,50 -690,50 ; -610,50 -590,50 ; -510,50 -490,50 ; -410,50 -390,50 ; -310,50 -290,50 ; -210,50 -190,50 ; -110,50 -90,50 ; -10,50 10,50 ; 90,50 110,50 ; 190,50 210,50 ; 290,50 310,50 ; 390,50 410,50 ; 490,50 510,50 ; 590,50 610,50 ; 690,50 710,50 ; 790,50 810,50 ; 890,50 910,50 ; 990,50 1010,50 ; 1090,50 1110,50 ; 1190,50 1210,50 ; 1290,50 1310,50 ; 1390,50 1410,50 ; 1490,50 1510,50 ; 1590,50 1610,50 ; 1690,50 1710,50 ; 1790,50 1810,50 ; 1890,50 1910,50 ; 1990,50 2025,50 2025,-25 1900,-25 ; -2025,-18.74 -2025,-12.52 ; -2025,-18.74 -2025,-25 -2018.74,-25 ; -2025,-18.74 -2018.74,-25 ; -2025,-12.52 -2025,-6.26 ; -2025,-12.52 -2012.52,-25 ; -2025,-6.26 -2025,0 ; -2025,-6.26 -2006.26,-25 ; -2025,0 -2025,6.26 ; -2025,0 -2000,-25 ; -2025,6.26 -2025,12.52 ; -2025,6.26 -1993.74,-25 ; -2025,12.52 -2025,18.74 ; -2025,12.52 -1987.52,-25 ; -2025,18.74 -2025,25 ; -2025,18.74 -1981.26,-25 ; -2025,25 -1975,-25 ; -2018.74,-25 -2012.52,-25 ; -2012.52,-25 -2006.26,-25 ; -2006.26,-25 -2000,-25 ; -2000,-25 -1993.74,-25 ; -1993.74,-25 -1987.52,-25 ; -1987.52,-25 -1981.26,-25 ; -1981.26,-25 -1975,-25 ; -1975,-25 -1900,-25 ; -1900,-25 -1250,-25 ; -1900,-25 -1900,-125 -1250,-125 -1250,-25 ; -1250,-25 -1175,-25 ; -1175,-25 -1125,-25 ; -1175,-25 -1175,-125 -1125,-125 -1125,-25 ; -1125,-25 -1050,-25 ; -1050,-25 -400,-25 ; -1050,-25 -1050,-125 -400,-125 -400,-25 ; -400,-25 -325,-25 ; -325,-25 -275,-25 ; -325,-25 -325,-125 -275,-125 -275,-25 ; -275,-25 -200,-25 ; -200,-25 200,-25 ; -200,-25 -200,-125 200,-125 200,-25 ; 200,-25 275,-25 ; 275,-25 325,-25 ; 275,-25 275,-125 325,-125 325,-25 ; 325,-25 400,-25 ; 400,-25 1050,-25 ; 400,-25 400,-125 1050,-125 1050,-25 ; 1050,-25 1125,-25 ; 1125,-25 1175,-25 ; 1125,-25 1125,-125 1175,-125 1175,-25 ; 1175,-25 1250,-25 ; 1250,-25 1900,-25 ; 1250,-25 1250,-125 1900,-125 1900,-25

## M14 [mil]
pads (40):
  oval 48x96 hole 32: 1(-1950,50) 2(-1850,50) 3(-1750,50) 4(-1650,50) 5(-1550,50) 6(-1450,50) 7(-1350,50) 8(-1250,50) 9(-1150,50) 10(-1050,50) 11(-950,50) 12(-850,50) 13(-750,50) 14(-650,50) 15(-550,50) 16(-450,50) 17(-350,50) 18(-250,50) 19(-150,50) 20(-50,50) 21(50,50) 22(150,50) 23(250,50) 24(350,50) 25(450,50) 26(550,50) 27(650,50) 28(750,50) 29(850,50) 30(950,50) 31(1050,50) 32(1150,50) 33(1250,50) 34(1350,50) 35(1450,50) 36(1550,50) 37(1650,50) 38(1750,50) 39(1850,50) 40(1950,50)
Top Overlay:
  lines w6: -1990,50 -2025,50 -2025,25 ; -1910,50 -1890,50 ; -1810,50 -1790,50 ; -1710,50 -1690,50 ; -1610,50 -1590,50 ; -1510,50 -1490,50 ; -1410,50 -1390,50 ; -1310,50 -1290,50 ; -1210,50 -1190,50 ; -1110,50 -1090,50 ; -1010,50 -990,50 ; -910,50 -890,50 ; -810,50 -790,50 ; -710,50 -690,50 ; -610,50 -590,50 ; -510,50 -490,50 ; -410,50 -390,50 ; -310,50 -290,50 ; -210,50 -190,50 ; -110,50 -90,50 ; -10,50 10,50 ; 90,50 110,50 ; 190,50 210,50 ; 290,50 310,50 ; 390,50 410,50 ; 490,50 510,50 ; 590,50 610,50 ; 690,50 710,50 ; 790,50 810,50 ; 890,50 910,50 ; 990,50 1010,50 ; 1090,50 1110,50 ; 1190,50 1210,50 ; 1290,50 1310,50 ; 1390,50 1410,50 ; 1490,50 1510,50 ; 1590,50 1610,50 ; 1690,50 1710,50 ; 1790,50 1810,50 ; 1890,50 1910,50 ; 1990,50 2025,50 2025,-25 1900,-25 ; -2025,-18.74 -2025,-12.52 ; -2025,-18.74 -2025,-25 -2018.74,-25 ; -2025,-18.74 -2018.74,-25 ; -2025,-12.52 -2025,-6.26 ; -2025,-12.52 -2012.52,-25 ; -2025,-6.26 -2025,0 ; -2025,-6.26 -2006.26,-25 ; -2025,0 -2025,6.26 ; -2025,0 -2000,-25 ; -2025,6.26 -2025,12.52 ; -2025,6.26 -1993.74,-25 ; -2025,12.52 -2025,18.74 ; -2025,12.52 -1987.52,-25 ; -2025,18.74 -2025,25 ; -2025,18.74 -1981.26,-25 ; -2025,25 -1975,-25 ; -2018.74,-25 -2012.52,-25 ; -2012.52,-25 -2006.26,-25 ; -2006.26,-25 -2000,-25 ; -2000,-25 -1993.74,-25 ; -1993.74,-25 -1987.52,-25 ; -1987.52,-25 -1981.26,-25 ; -1981.26,-25 -1975,-25 ; -1975,-25 -1900,-25 ; -1900,-25 -1250,-25 ; -1900,-25 -1900,-125 -1250,-125 -1250,-25 ; -1250,-25 -1175,-25 ; -1175,-25 -1125,-25 ; -1175,-25 -1175,-125 -1125,-125 -1125,-25 ; -1125,-25 -1050,-25 ; -1050,-25 -400,-25 ; -1050,-25 -1050,-125 -400,-125 -400,-25 ; -400,-25 -325,-25 ; -325,-25 -275,-25 ; -325,-25 -325,-125 -275,-125 -275,-25 ; -275,-25 -200,-25 ; -200,-25 200,-25 ; -200,-25 -200,-125 200,-125 200,-25 ; 200,-25 275,-25 ; 275,-25 325,-25 ; 275,-25 275,-125 325,-125 325,-25 ; 325,-25 400,-25 ; 400,-25 1050,-25 ; 400,-25 400,-125 1050,-125 1050,-25 ; 1050,-25 1125,-25 ; 1125,-25 1175,-25 ; 1125,-25 1125,-125 1175,-125 1175,-25 ; 1175,-25 1250,-25 ; 1250,-25 1900,-25 ; 1250,-25 1250,-125 1900,-125 1900,-25

## M15 [mil]
pads (40):
  oval 48x96 hole 32: 1(-950,-450) 2(-850,-450) 3(-750,-450) 4(-650,-450) 5(-550,-450) 6(-450,-450) 7(-350,-450) 8(-250,-450) 9(-150,-450) 10(-50,-450) 11(50,-450) 12(150,-450) 13(250,-450) 14(350,-450) 15(450,-450) 16(550,-450) 17(650,-450) 18(750,-450) 19(850,-450) 20(950,-450) 21(950,450) 22(850,450) 23(750,450) 24(650,450) 25(550,450) 26(450,450) 27(350,450) 28(250,450) 29(150,450) 30(50,450) 31(-50,450) 32(-150,450) 33(-250,450) 34(-350,450) 35(-450,450) 36(-550,450) 37(-650,450) 38(-750,450) 39(-850,450) 40(-950,450)
Top Overlay:
  lines w6: -985,-425 -1200,-425 ; -985,425 -1250,425 -1250,-375 ; 985,-425 1250,-425 1250,425 985,425 ; -1250,-418.74 -1250,-425 -1243.74,-425 ; -1250,-418.74 -1250,-412.5 ; -1250,-418.74 -1243.74,-425 ; -1250,-412.5 -1250,-406.26 ; -1250,-412.5 -1237.5,-425 ; -1250,-406.26 -1250,-400 ; -1250,-406.26 -1231.26,-425 ; -1250,-400 -1250,-393.74 ; -1250,-400 -1225,-425 ; -1250,-393.74 -1250,-387.5 ; -1250,-393.74 -1218.74,-425 ; -1250,-387.5 -1250,-381.26 ; -1250,-387.5 -1212.5,-425 ; -1250,-381.26 -1250,-375 ; -1250,-381.26 -1206.26,-425 ; -1250,-375 -1200,-425 ; -1243.74,-425 -1237.5,-425 ; -1237.5,-425 -1231.26,-425 ; -1231.26,-425 -1225,-425 ; -1225,-425 -1218.74,-425 ; -1218.74,-425 -1212.5,-425 ; -1212.5,-425 -1206.26,-425 ; -1206.26,-425 -1200,-425 ; -1200,-350 -1200,-25 -650,-25 -650,-350 -1200,-350 ; -1200,25 -1200,350 -650,350 -650,25 -1200,25 ; -625,-350 -625,-25 -25,-25 -25,-350 -625,-350 ; -625,25 -25,25 -25,350 -625,350 -625,25 ; 0,-350 0,-25 625,-25 625,-350 0,-350 ; 0,25 625,25 625,350 0,350 0,25 ; 650,-350 650,-25 1200,-25 1200,-350 650,-350 ; 650,25 1200,25 1200,350 650,350 650,25
Mechanical 16:
  lines w6: -985,-425 985,-425 ; -985,425 985,425